# Altium footprint library LTE_GPS_433_V1.0.PcbLib: 60 footprints (part 1 of 4)
Each footprint in its own frame and in the unit in brackets; x right, y up, seen from the top. Pads: shape width x height; smd on the part's side, far side on the other; paste and mask are expansions set on the pad; w line width, h text height; cw(c..) or ccw(c..) is an arc to the next point about the centre after c.
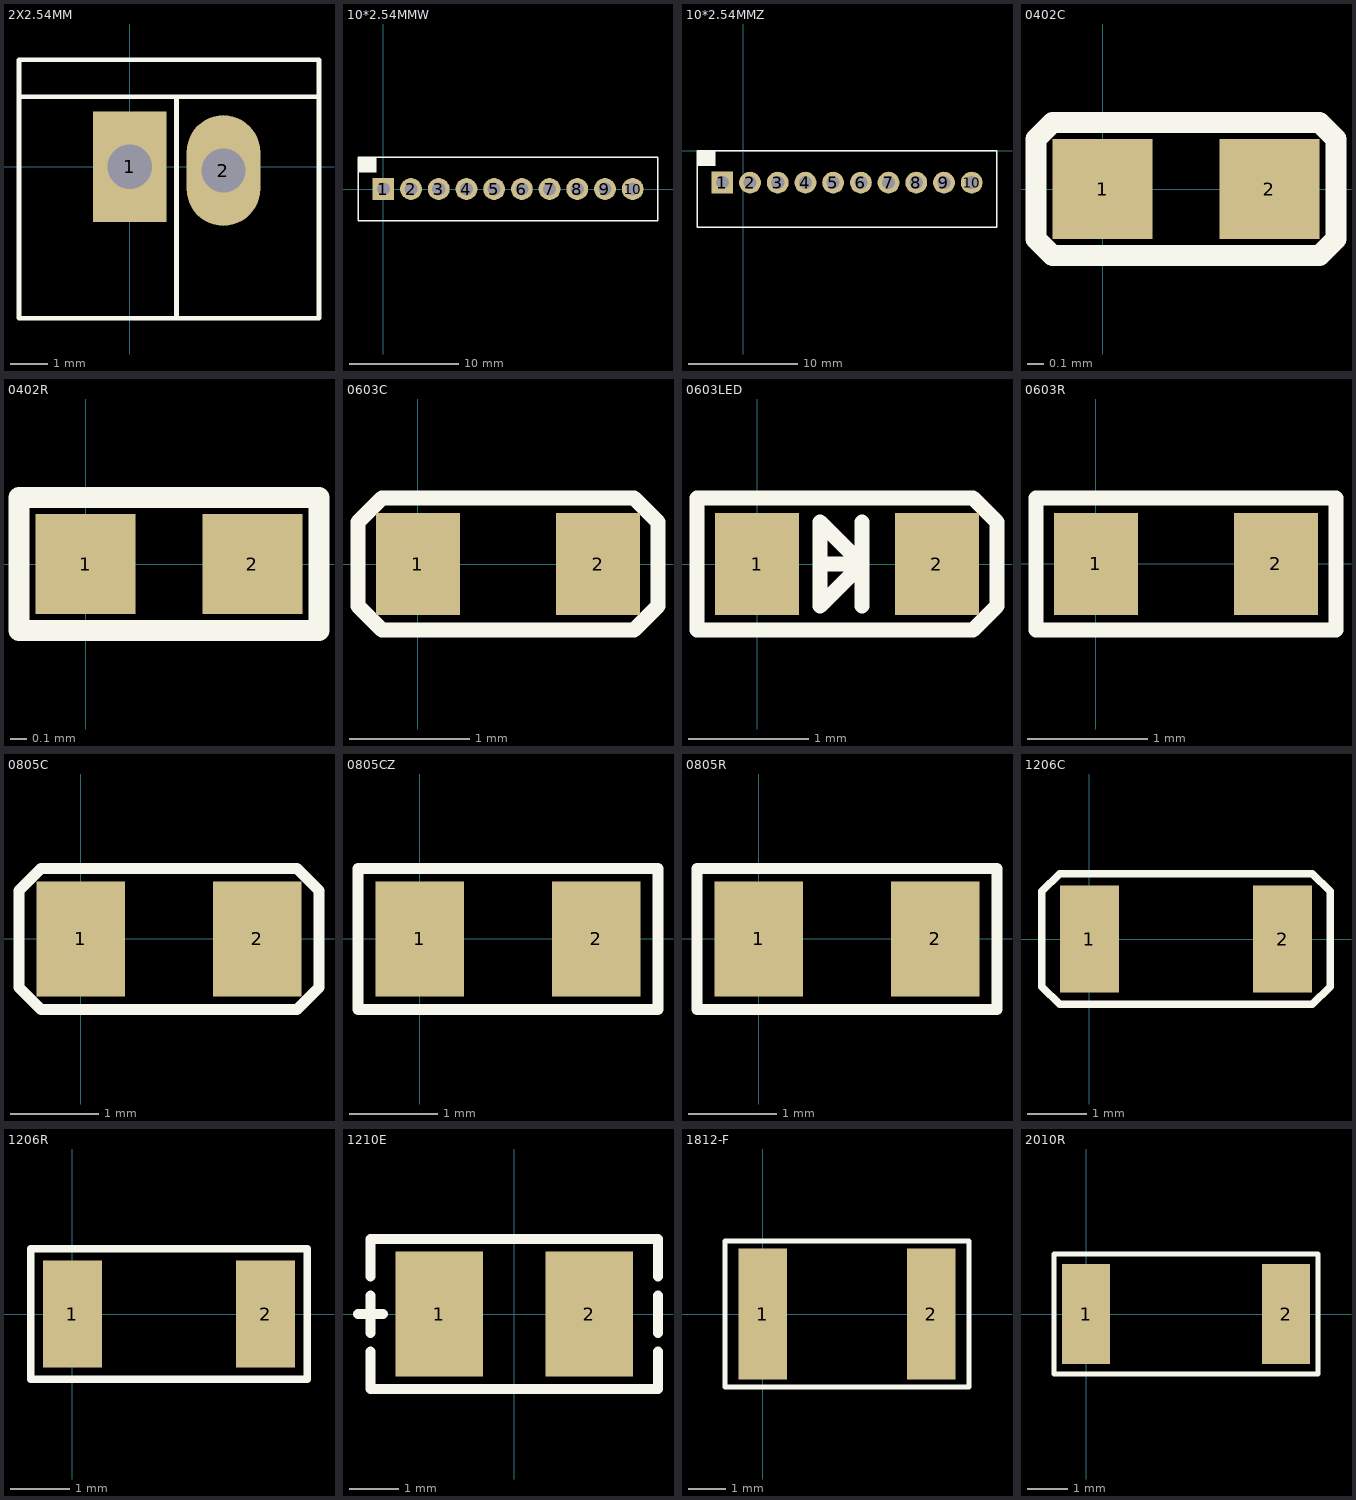
[diagram p0: the footprints below, top view; thin cyan lines are the x and y axes]

## 2X2.54MM [mm]
pads (2):
  rect 2x3 hole 1.2: 1(0,0)
  oval 2x3 hole 1.2: 2(2.54,-0.1)
Top Overlay:
  lines w0.127: -3,1.9 5.131,1.9 ; 1.27,-4.1 1.27,1.9 ; -3,-4.1 -3,2.9 5.131,2.9 5.131,-4.1 -3,-4.1

## 10*2.54MMW [mm]
pads (10):
  rect 2x2 hole 1.2: 1(0,0)
  round 2 hole 1.2: 2(2.54,0) 3(5.08,0) 4(7.62,0) 5(10.16,0) 6(12.7,0) 7(15.24,0) 8(17.78,0) 9(20.32,0) 10(22.86,0)
Top Overlay:
  rectangle: -2.32,1.527 -0.635,2.903
  lines w0.127: -2.32,-2.9 25.18,-2.9 25.18,2.9 -2.32,2.9 -2.32,-2.9

## 10*2.54MMZ [mm]
pads (10):
  rect 2x2 hole 1.2: 1(-1.905,-2.921)
  round 2 hole 1.2: 2(0.635,-2.921) 3(3.175,-2.921) 4(5.715,-2.921) 5(8.255,-2.921) 6(10.795,-2.921) 7(13.335,-2.921) 8(15.875,-2.921) 9(18.415,-2.921) 10(20.955,-2.921)
Top Overlay:
  rectangle: -4.225,-1.394 -2.54,-0.018
  lines w0.127: -4.225,-7 -4.225,-0.021 23.275,-0.021 23.275,-7 -4.225,-7

## 0402C [mm]
pads (2):
  rect 0.6x0.6 smd: 1(0,0) 2(1,0)
Top Overlay:
  lines w0.127: -0.4,-0.3 -0.4,0.3 ; -0.4,-0.3 -0.4,-0.3 ; -0.4,-0.3 -0.3,-0.4 1.3,-0.4 ; -0.4,0.3 -0.4,0.3 ; -0.4,0.3 -0.3,0.4 1.3,0.4 1.4,0.3 ; 1.3,-0.4 1.3,-0.4 ; 1.3,-0.4 1.4,-0.3 ; 1.4,-0.3 1.4,0.3 ; 1.4,-0.3 1.4,-0.3 ; 1.4,0.3 1.4,0.3

## 0402R [mm]
pads (2):
  rect 0.6x0.6 smd: 1(0,0) 2(1,0)
Top Overlay:
  lines w0.127: -0.4,-0.4 1.4,-0.4 1.4,0.4 -0.4,0.4 -0.4,-0.4

## 0603C [mm]
pads (2):
  rect 0.7x0.85 smd: 1(0,0) 2(1.5,0)
Top Overlay:
  lines w0.127: -0.5,-0.35 -0.3,-0.55 1.8,-0.55 2,-0.35 2,0.35 1.8,0.55 -0.3,0.55 -0.5,0.35 -0.5,-0.35

## 0603LED [mm]
pads (2):
  rect 0.7x0.85 smd: 1(0,0) 2(1.5,0)
Top Overlay:
  lines w0.127: 0.525,0 0.875,0 ; 0.875,-0.35 0.875,0.35 ; 0.875,0 0.525,0.35 0.525,-0.35 0.875,0 ; -0.5,-0.55 -0.5,0.55 1.8,0.55 2,0.35 2,-0.35 1.8,-0.55 -0.5,-0.55

## 0603R [mm]
pads (2):
  rect 0.7x0.85 smd: 1(0,0) 2(1.5,0)
Top Overlay:
  lines w0.127: -0.5,-0.55 2,-0.55 2,0.55 -0.5,0.55 -0.5,-0.55

## 0805C [mm]
pads (2):
  rect 1x1.3 smd: 1(0,0) 2(2,0)
Top Overlay:
  lines w0.127: 2.45,-0.8 -0.45,-0.8 -0.7,-0.55 -0.7,0.55 -0.45,0.8 2.45,0.8 2.7,0.55 2.7,-0.55 2.45,-0.8 ; 2.45,-0.8 2.45,-0.8

## 0805CZ [mm]
pads (2):
  rect 1x1.3 smd: 1(0,0) 2(2,0)
Top Overlay:
  lines w0.127: -0.7,-0.8 -0.7,0.8 2.7,0.8 2.7,-0.8 -0.7,-0.8 ; 2.45,-0.8 2.45,-0.8

## 0805R [mm]
pads (2):
  rect 1x1.3 smd: 1(0,0) 2(2,0)
Top Overlay:
  lines w0.127: -0.7,-0.8 2.7,-0.8 2.7,0.8 -0.7,0.8 -0.7,-0.8 ; 2.45,-0.8 2.45,-0.8

## 1206C [mm]
pads (2):
  rect 1x1.8 smd: 1(0,0) 2(3.25,0)
Top Overlay:
  lines w0.127: -0.8,-0.8 -0.5,-1.1 3.75,-1.1 4.05,-0.8 4.05,0.8 3.75,1.1 -0.5,1.1 -0.8,0.8 -0.8,-0.8

## 1206R [mm]
pads (2):
  rect 1x1.8 smd: 1(0,0) 2(3.25,0)
Top Overlay:
  lines w0.127: -0.7,-1.1 3.95,-1.1 3.95,1.1 -0.7,1.1 -0.7,-1.1

## 1210E [mil]
height 437.01
pads (2):
  rect 70x100 smd: 1(-60,0) 2(60,0)
Top Overlay:
  lines w8: -125,0 -105,0 ; -115,-30 -115,-60 115,-60 115,-30 ; -115,-15 -115,15 ; -115,30 -115,60 115,60 115,30 ; 115,-15 115,15

## 1812-F [mm]
pads (2):
  rect 1.3x3.5 smd: 1(0,0) 2(4.5,0)
Top Overlay:
  lines w0.127: -1,-1.95 5.5,-1.95 5.5,1.95 -1,1.95 -1,-1.95

## 2010R [mm]
height 0.6
pads (2):
  rect 1.2x2.5 smd: 1(0,0) 2(5,0)
Top Overlay:
  lines w0.127: -0.8,-1.5 -0.8,1.5 5.8,1.5 5.8,-1.5 -0.8,-1.5